# Altium schematic symbol library Microchip.SchLib: 3 symbols
Pins are listed as number, name and electrical type; pins without a type are passive.

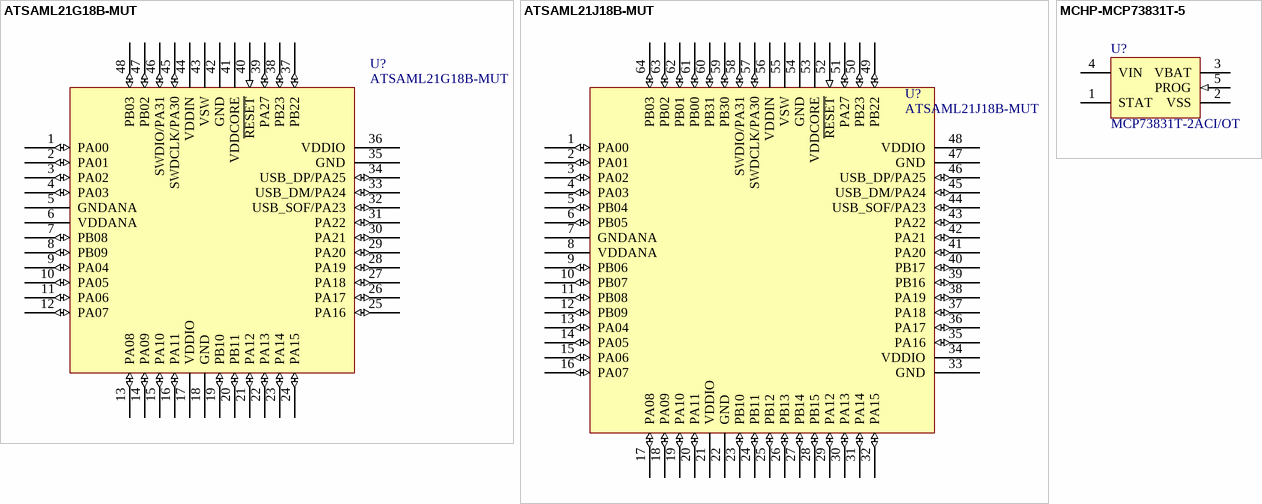
[diagram p0: symbols ATSAML21G18B-MUT to MCHP-MCP73831T-5]

## ATSAML21G18B-MUT
designator U?
RAM Memory Size: 32768 B; Octopart URL: https://octopart.com/atsaml21g18b-mut-microchip-77761695; RoHS: Compliant; OctopartID: 3cd3f17b952ae314; Manufacturer Part Number: ATSAML21G18B-MUT
footprint QFN50P700X700X90-49N
pins: 0 PAD (power) hidden to GND, 1 PA00 (io), 2 PA01 (io), 3 PA02 (io), 4 PA03 (io), 5 GNDANA, 6 VDDANA (power), 7 PB08 (io), 8 PB09 (io), 9 PA04 (io), 10 PA05 (io), 11 PA06 (io), 12 PA07 (io), 13 PA08 (io), 14 PA09 (io), 15 PA10 (io), 16 PA11 (io), 17 VDDIO (power), 18 GND, 19 PB10 (io), 20 PB11 (io), 21 PA12 (io), 22 PA13 (io), 23 PA14 (io), 24 PA15 (io), 25 PA16 (io), 26 PA17 (io), 27 PA18 (io), 28 PA19 (io), 29 PA20 (io), 30 PA21 (io), 31 PA22 (io), 32 USB_SOF/PA23 (io), 33 USB_DM/PA24 (io), 34 USB_DP/PA25 (io), 35 GND, 36 VDDIO (power), 37 PB22 (io), 38 PB23 (io), 39 PA27 (io), 40 ~{RESET} (in), 41 VDDCORE (power), 42 GND, 43 VSW (power), 44 VDDIN (power), 45 SWDCLK/PA30 (io), 46 SWDIO/PA31 (io), 47 PB02 (io), 48 PB03 (io)

## ATSAML21J18B-MUT
designator U?
RAM Memory Size: 32 kB; Octopart URL: https://octopart.com/atsaml21j18b-mut-microchip-77761701; RoHS: Compliant; Manufacturer Part Number: ATSAML21J18B-MUT
footprint QFN64PAD_9x9-P50
pins: 0 PAD (out) hidden to GND, 1 PA00 (io), 2 PA01 (io), 3 PA02 (io), 4 PA03 (io), 5 PB04 (io), 6 PB05 (io), 7 GNDANA, 8 VDDANA (power), 9 PB06 (io), 10 PB07 (io), 11 PB08 (io), 12 PB09 (io), 13 PA04 (io), 14 PA05 (io), 15 PA06 (io), 16 PA07 (io), 17 PA08 (io), 18 PA09 (io), 19 PA10 (io), 20 PA11 (io), 21 VDDIO (power), 22 GND, 23 PB10 (io), 24 PB11 (io), 25 PB12 (io), 26 PB13 (io), 27 PB14 (io), 28 PB15 (io), 29 PA12 (io), 30 PA13 (io), 31 PA14 (io), 32 PA15 (io), 33 GND, 34 VDDIO (power), 35 PA16 (io), 36 PA17 (io), 37 PA18 (io), 38 PA19 (io), 39 PB16 (io), 40 PB17 (io), 41 PA20 (io), 42 PA21 (io), 43 PA22 (io), 44 USB_SOF/PA23 (io), 45 USB_DM/PA24 (io), 46 USB_DP/PA25 (io), 47 GND, 48 VDDIO (power), 49 PB22 (io), 50 PB23 (io), 51 PA27 (io), 52 ~{RESET} (in), 53 VDDCORE (power), 54 GND, 55 VSW (power), 56 VDDIN (power), 57 SWDCLK/PA30 (io), 58 SWDIO/PA31 (io), 59 PB30 (io), 60 PB31 (io), 61 PB00 (io), 62 PB01 (io), 63 PB02 (io), 64 PB03 (io)

## MCHP-MCP73831T-5
designator U?, comment MCP73831T-2ACI/OT
MCP73831 Series Single-Cell Li-Ion/Li-Polymer Battery Charge Controller SOT-23-5; Input Voltage (DC): 3.75 V (min); Lead-Free Status: Lead Free; Supply Voltage (DC): 6.00 V (max); Output Voltage: 7.30 V; RoHS: Compliant; Octopart URL: https://octopart-clicks.com/click/track?country=US&ak=8157f166&sig=05342b1&sid=459&ppid=55392281&vpid=188043932&ct=offers; OctopartID: d79a1dddcae5085d; Manufacturer Part Number: MCP73831T-2ACI/OT; REACH SVHC Compliance: No SVHC; Case/Package: SOT-23; Lifecycle Status: Active; Packaging: Cut Tape (CT), Tape & Reel (TR); Number of Pins: 5; Mounting Style: Surface Mount; Octopart Url: http://octopart.com/mcp73831t-2aci%2Fot-microchip-55392281
footprint SOT-23-5_MC
footprint SOT-23-5_MC-L
footprint SOT-23-5_MC-M
pins: 1 STAT (hiz), 2 VSS (power), 3 VBAT (power), 4 VIN (power), 5 PROG (in)